# EAGLE library part ARUDUINO_NANO_3.0 (library aruduinos)
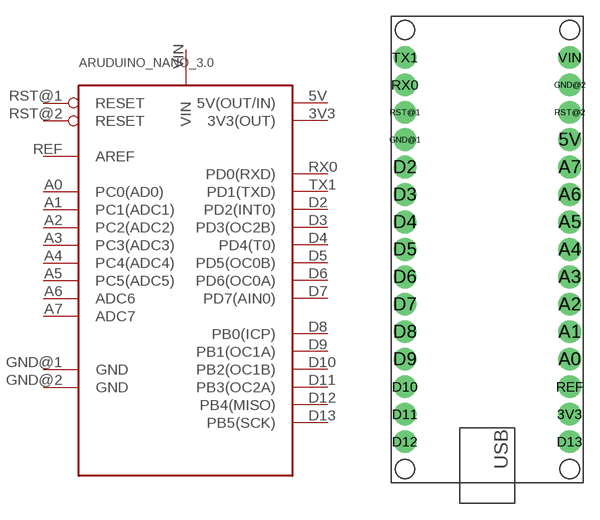
[diagram p1: symbol with the pads of ARYDUINO_NANO_3.0; footprint ARYDUINO_NANO_3.0]

Designator prefix -

## ARUDUINO_NANO_3.0  [ARYDUINO_NANO_3.0]
3V3  3V3(OUT)
5V  5V(OUT/IN)
A0  PC0(AD0)
A1  PC1(ADC1)
A2  PC2(ADC2)
A3  PC3(ADC3)
A4  PC4(ADC4)
A5  PC5(ADC5)
A6  ADC6
A7  ADC7
D2  PD2(INT0)
D3  PD3(OC2B)
D4  PD4(T0)
D5  PD5(OC0B)
D6  PD6(OC0A)
D7  PD7(AIN0)
D8  PB0(ICP)
D9  PB1(OC1A)
D10  PB2(OC1B)
D11  PB3(OC2A)
D12  PB4(MISO)
D13  PB5(SCK)
GND@1  GND
GND@2  GND
REF  AREF
RST@1  RESET
RST@2  RESET
RX0  PD0(RXD)
TX1  PD1(TXD)
VIN  VIN

## Footprint ARYDUINO_NANO_3.0 (pad centres in mm)
drill 1.4 pad 1.93: 3V3 7.62,-15.24; 5V 7.62,10.16; A0 7.62,-10.16; A1 7.62,-7.62; A2 7.62,-5.08; A3 7.62,-2.54; A4 7.62,0; A5 7.62,2.54; A6 7.62,5.08; A7 7.62,7.62; D2 -7.62,7.62; D3 -7.62,5.08; D4 -7.62,2.54; D5 -7.62,0; D6 -7.62,-2.54; D7 -7.62,-5.08; D8 -7.62,-7.62; D9 -7.62,-10.16; D10 -7.62,-12.7; D11 -7.62,-15.24; D12 -7.62,-17.78; D13 7.62,-17.78; GND@1 -7.62,10.16; GND@2 7.62,15.24; REF 7.62,-12.7; RST@1 -7.62,12.7; RST@2 7.62,12.7; RX0 -7.62,15.24; TX1 -7.62,17.78; VIN 7.62,17.78